# Altium schematic symbol library parts.schlib: 36 symbols
Pins are listed as number, name and electrical type; pins without a type are passive.

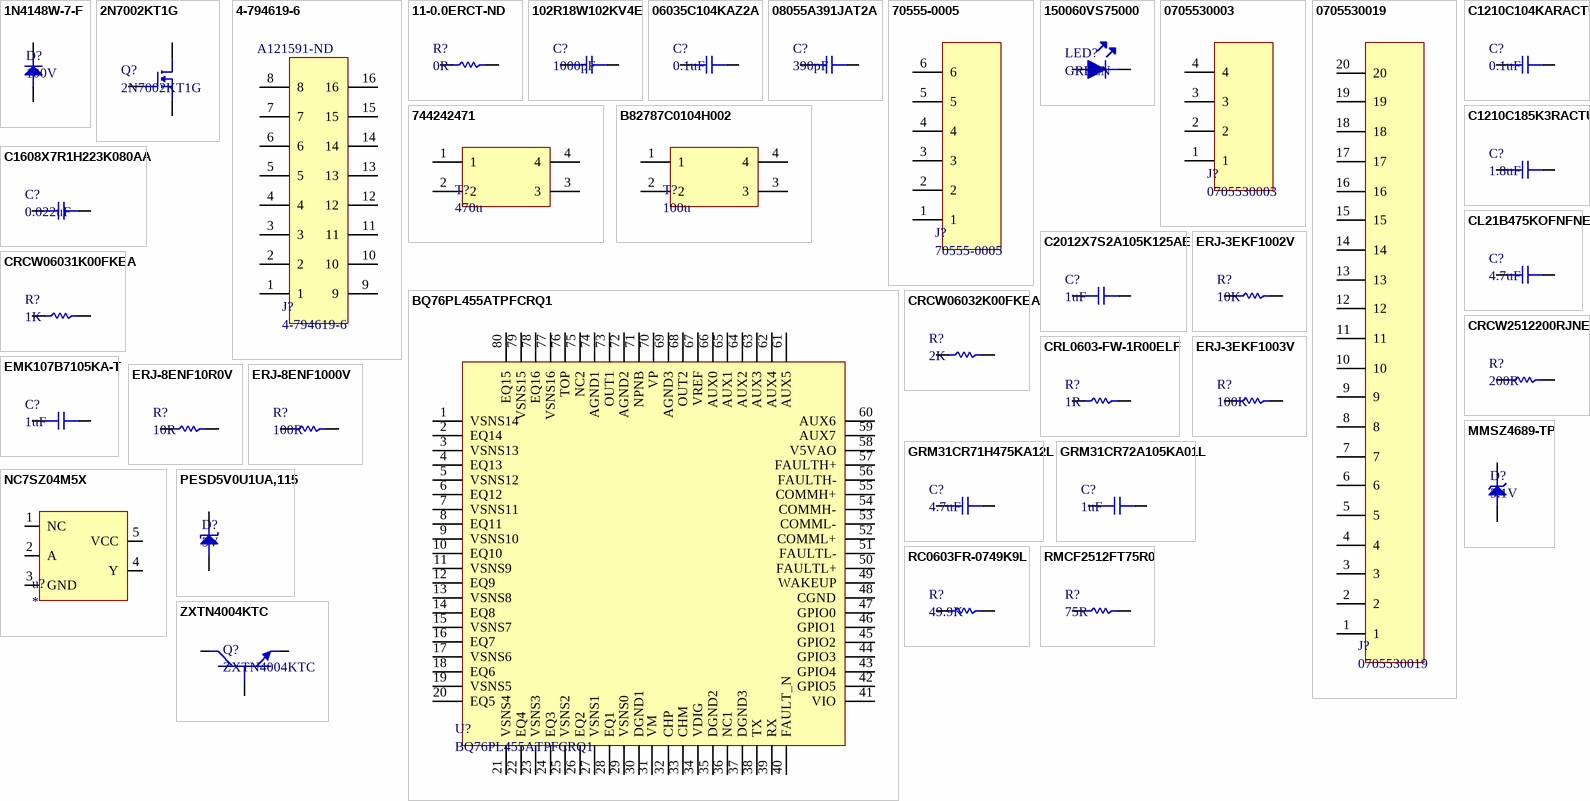
[diagram p0: symbols 1N4148W-7-F to ZXTN4004KTC]

## 1N4148W-7-F
designator D?, comment 100V
DIODE GEN PURP 100V 300MA SOD123; Manufacturer: Diodes; Manufacturer Part Number: 1N4148W-7-F; Max Surge Current: 2A; Forward Current: 150mA; Peak Reverse Current: 1uA; Recovery Time: 4ns; Forward Voltage: 1.25V; Power Dissipation: 400mW; Element Configuration: Single; Polarity: Standard; Voltage Rating (DC): 75V; Capacitance: 2pF; Current: 15A; Supplier 1: Digi-Key; Stock 1: 0; Pricing 1: 1=0.18, 10=0.164, 100=0.0891, 500=0.0548, 1000=0.0374 (USD); Mount: Surface Mount; Number of Pins: 2; Weight: 0.000353oz; Contact Plating: Matte,Tin; Min Operating Temperature: -65°C; Max Operating Temperature: 150°C; Package Quantity: 3000; Packaging: Tape and Reel; Average Rectified Current: 300mA; Reverse Recovery Time: 4ns; Max Repetitive Reverse Voltage (Vrrm): 100V; Peak Non-Repetitive Surge Current: 2A; Power Rating: 400mW; Max Reverse Voltage (DC): 100V; Max Forward Surge Current (Ifsm): 2A; Current Rating: 150mA; Output Current: 150mA; Voltage: 100V; Length: 2.85mm; Height: 1.25mm; Width: 1.7mm; Radiation Hardening: No; Lead Free: Lead Free; REACH SVHC: No SVHC; Supplier Part Number 1: 1N4148W-FDICT-ND
footprint DIODE BtoB (1N4148W-7-F)
pins: 1, 2

## 2N7002KT1G
designator Q?
MOSFET N-CH 60V 320MA SOT-23; Manufacturer: ON Semiconductor; Input Capacitance: 24.5pF; Max Power Dissipation: 420mW; Rds On Max: 1.6R; Nominal Vgs: 2.3V; Number of Elements: 1; Power Dissipation: 300mW; Turn-Off Delay Time: 55.8ns; Turn-On Delay Time: 12.2ns; Element Configuration: Single; Gate to Source Voltage (Vgs): 20V; Rise Time: 9ns; Supplier 1: Digi-Key; Manufacturer Part Number: 2N7002KT1G; Stock 1: 39226; Pricing 1: 1=0.21, 10=0.193, 100=0.1264, 500=0.0618, 1000=0.0421 (USD); Case/Package: SOT-23-3; Number of Pins: 3; Contact Plating: Matte,Tin; Min Operating Temperature: -55°C; Max Operating Temperature: 150°C; Packaging: Tape and Reel; Continuous Drain Current (ID): 320mA; Package Quantity: 1; Drain to Source Breakdown Voltage: 60V; Drain to Source Resistance: 1.6R; Threshold Voltage: 2.3V; On-State Resistance: 1.6R; Fall Time: 9ns; Length: 3.04mm; Height: 1.01mm; Width: 1.4mm; Radiation Hardening: No; REACH SVHC: No SVHC; Lead Free: Lead Free; Halogen Free: Halogen Free; ComponentLink1URL: http://www.mouser.com/ds/2/308/2N7002K-D-40616.pdf; ComponentLink1Description: http://www.mouser.com/ds/2/308/2N7002K-D-40616.pdf; ComponentLink2URL: http://www.farnell.com/datasheets/2354033.pdf; ComponentLink2Description: http://www.farnell.com/datasheets/2354033.pdf; ComponentLink3URL: http://www.onsemi.ru.com/pub/Collateral/2N7002K-D.PDF; ComponentLink3Description: http://www.onsemi.ru.com/pub/Collateral/2N7002K-D.PDF; ComponentLink4URL: https://www.verical.com/server-webapp/html/getDatasheet?partID=309924; ComponentLink4Description: https://www.verical.com/server-webapp/html/getDatasheet?partID=309924; ComponentLink5URL: http://www.onsemi.com/pub_link/Collateral/2N7002K-D.PDF; ComponentLink5Description: http://www.onsemi.com/pub_link/Collateral/2N7002K-D.PDF; ComponentLink6URL: http://uk.rs-online.com/webdocs/13e9/0900766b813e9f06.pdf; ComponentLink6Description: http://uk.rs-online.com/webdocs/13e9/0900766b813e9f06.pdf; ComponentLink7URL: http://www.onsemi.com/pub/Collateral/2N7002K-D.PDF; ComponentLink7Description: http://www.onsemi.com/pub/Collateral/2N7002K-D.PDF; Supplier Part Number 1: 2N7002KT1GOSCT-ND
footprint N-MOSFET (2V7002K)
pins: 1, 2, 3

## 4-794619-6
designator J?  Supplier Part Number 1: A121591-ND
CONN HEADER R/A 16POS 3MM; Manufacturer: TE Connectivity; Max Voltage Rating (AC): 250V; Current Rating: 5A; Number of Positions: 16; Number of Ports: 1; Connector Type: Pin; Circuit Application: Power; Connector System: Wire-to-Board; Contact Retention: No (Without); Mating Alignment: Yes (With); PCB Mount Retention: With; PCB Mounting Orientation: Right Angle; VDE Tested: Yes; Pitch: 0.118inch; Row Spacing: 0.118mm; PCB Thickness: 0.063inch; Approvals: CSA; Supplier 1: Digi-Key; Manufacturer Part Number: 4-794619-6; Stock 1: 1304; Pricing 1: 1=2.43, 10=2.209, 130=1.8933, 520=1.5778, 1040=1.3524, 5070=1.1991 (USD); Mount: Through Hole; Contact Material: Brass; Contact Plating: Gold,Tin; Color: Black; Number of Terminals: 16; Housing Material: Nylon; Housing Color: Black; Min Operating Temperature: -40°C; Max Operating Temperature: 221°C; Packaging: Tray; Package Quantity: 130; Number of Rows: 2; Fastening Type: Ramp; Voltage Rating: 250V; Termination: Solder; Number of Contacts: 16; Orientation: Right Angle; Mating Retention: Yes (With); Number of Power Positions: 16; Sealable: No (Without); Strain Relief: No (Without); Contact Current Rating: 5A; Length: 28mm; Depth: 11.92mm; Radiation Hardening: No; Flammability Rating: UL94 V-0; ELV: Compliant; ComponentLink1URL: http://www.te.com/commerce/DocumentDelivery/DDEController?Action=srchrtrv&DocNm=82181_SOFTSHELL_HIGH_DENSITY&DocType=Catalog+Section&DocLang=English&PartCntxt=&src-supplier=Avnet; ComponentLink1Description: http://www.te.com/commerce/DocumentDelivery/DDEController?Action=srchrtrv&DocNm=82181_SOFTSHELL_HIGH_DENSITY&DocType=Catalog+Section&DocLang=English&PartCntxt=&src-supplier=Avnet; ComponentLink2URL: http://www.te.com/commerce/DocumentDelivery/DDEController?Action=srchrtrv&DocNm=794619&DocType=Customer+Drawing&DocLang=English&src-supplier=Digi-Key; ComponentLink2Description: http://www.te.com/commerce/DocumentDelivery/DDEController?Action=srchrtrv&DocNm=794619&DocType=Customer+Drawing&DocLang=English&src-supplier=Digi-Key; ComponentLink3URL: http://www.onlinecomponents.com/productFiles/mf-AMP/eng_cs_82181_softshell_high_density_0508.pdf?src-supplier=Onlinecomponents.com; ComponentLink3Description: http://www.onlinecomponents.com/productFiles/mf-AMP/eng_cs_82181_softshell_high_density_0508.pdf?src-supplier=Onlinecomponents.com
footprint THERMO HDR
pins: 1, 2, 3, 4, 5, 6, 7, 8, 9, 10, 11, 12, 13, 14, 15, 16

## 11-0.0ERCT-ND
designator R?, comment 0R
RES SMD 0 OHM JUMPER 1/4W 1206; Manufacturer: Yageo; Manufacturer Part Number: RC1206JR-070RL; Power Rating: 250mW; Tolerance: 5%; Voltage Rating: 200V; Resistance: 0mR; Temperature Coefficient: 200ppm/°C; Supplier 1: Digi-Key; Stock 1: 13658695; Pricing 1: 1=0.1, 10=0.067, 25=0.0484, 50=0.0368, 100=0.0271, 250=0.0207, 500=0.0166, 1000=0.0122 (USD); Case/Package: 1206; Case Code (Metric): 3216; Case Code (Imperial): 1206; Contact Plating: Tin,Matte; Min Operating Temperature: -55°C; Max Operating Temperature: 155°C; Composition: Thick Film,Carbon Film; Packaging: Tape and Reel; Package Quantity: 5000; Number of Terminations: 2; Termination: SMD/SMT; Military Standard: Not; Max Power Dissipation: 250mW; Length: 3.1mm; Height: 0.026inch; Width: 0.063inch; Depth: 1.6mm; Radiation Hardening: No; REACH SVHC: Unknown; Lead Free: Lead Free; ComponentLink1URL: http://www.farnell.com/datasheets/1692832.pdf?src-supplier=Element14; ComponentLink1Description: http://www.farnell.com/datasheets/1692832.pdf?src-supplier=Element14; ComponentLink2URL: http://www.farnell.com/datasheets/444357.pdf?src-supplier=Element14; ComponentLink2Description: http://www.farnell.com/datasheets/444357.pdf?src-supplier=Element14; ComponentLink3URL: http://www.yageo.com/documents/recent/PYu-RC1206_51_RoHS_L-4.pdf?src-supplier=Future+Electronics; ComponentLink3Description: http://www.yageo.com/documents/recent/PYu-RC1206_51_RoHS_L-4.pdf?src-supplier=Future+Electronics; ComponentLink4URL: http://www.yageo.com/documents/recent/PYu-RC_Group_51_RoHS_L_10.pdf?src-supplier=Digi-Key; ComponentLink4Description: http://www.yageo.com/documents/recent/PYu-RC_Group_51_RoHS_L_10.pdf?src-supplier=Digi-Key; ComponentLink5URL: http://documents.rs-components.com/techlib://itc_doclist_GB.htm?stockno=6182243&src-supplier=RSComponents; ComponentLink5Description: http://documents.rs-components.com/techlib://itc_doclist_GB.htm?stockno=6182243&src-supplier=RSComponents; ComponentLink6URL: http://www.produktinfo.conrad.com/datenblaetter/400000-424999/402222-da-01-en-SMD_WIDERSTAND_0_OHM_1206.pdf?src-supplier=Conrad; ComponentLink6Description: http://www.produktinfo.conrad.com/datenblaetter/400000-424999/402222-da-01-en-SMD_WIDERSTAND_0_OHM_1206.pdf?src-supplier=Conrad; Supplier Part Number 1: 311-0.0ERCT-ND
footprint 1206 RES (Chip Resistor, 2-Leads, Body 3.15x1.60mm, IPC Medium Density)
pins: 1, 2

## 102R18W102KV4E
designator C?, comment 1000pF
CAP CER 1000PF 1KV X7R 1206; Manufacturer: Johanson; Manufacturer Part Number: 102R18W102KV4E; Dielectric Material: Ceramic; Capacitance: 1nF; Tolerance: 10%; Supplier 1: Digi-Key; Stock 1: 30000; Pricing 1: 1=0.38, 10=0.266, 100=0.1594, 500=0.1195, 1000=0.101 (USD); Mount: Surface Mount; Case/Package: 1206; Number of Pins: 2; Case Code (Imperial): 1206; Case Code (Metric): 3216; Min Operating Temperature: -55°C; Max Operating Temperature: 125°C; Packaging: Tape and Reel; Voltage Rating: 1kV; Voltage Rating (DC): 1kV; Package Quantity: 3000; Dielectric: X7R; Termination: SMD/SMT; Voltage: 1kV; Length: 3.17mm; Height: 1.27mm; Width: 1.6mm; Thickness: 0.067inch; Depth: 1.57mm; Radiation Hardening: No; REACH SVHC: No SVHC; ComponentLink1URL: http://www.farnell.com/datasheets/1909358.pdf; ComponentLink1Description: http://www.farnell.com/datasheets/1909358.pdf; ComponentLink2URL: http://www.farnell.com/datasheets/1898761.pdf; ComponentLink2Description: http://www.farnell.com/datasheets/1898761.pdf; Supplier Part Number 1: 709-1029-1-ND
footprint 1206 CAP (Chip Capacitor, 2-Leads, Body 3.20x1.60mm, IPC Medium Density)
pins: 1, 2

## 06035C104KAZ2A
designator C?, comment 0.1uF
CAP CER 0.1UF 50V X7R 0603; Manufacturer: Kyocera AVX; Manufacturer Part Number: 06035C104KAZ2A; Capacitance: 100nF; Tolerance: 10%; Temperature Coefficient: 30ppm/°C; Supplier 1: Digi-Key; Stock 1: 40000; Pricing 1: 1=0.23, 10=0.161, 100=0.0756, 500=0.053, 1000=0.0439 (USD); Mount: PCB,Surface Mount; Case/Package: 0603; Number of Pins: 2; Case Code (Metric): 1608; Case Code (Imperial): 0603; Contact Plating: Matte,Tin; Min Operating Temperature: -55°C; Max Operating Temperature: 125°C; Package Quantity: 1; Voltage Rating: 50V; Packaging: Tape and Reel; Voltage Rating (DC): 50V; Dielectric: X7R; Termination: SMD/SMT; Voltage: 50V; Features: Soft Termination; Length: 1.6mm; Height: 0.94mm; Width: 0.032inch; Thickness: 0.035inch; Depth: 0.81mm; Radiation Hardening: No; REACH SVHC: No SVHC; Lead Free: Lead Free; Supplier Part Number 1: 478-3540-1-ND
footprint 0603 CAP - duplicate (Chip Capacitor, 2-Leads, Body 1.60x0.80mm, IPC Medium Density)
pins: 1, 2

## 08055A391JAT2A
designator C?, comment 390pF
CAP CER 390PF 50V C0G/NP0 0805; Manufacturer: Kyocera AVX; Manufacturer Part Number: 08055A391JAT2A; Dielectric Material: Ceramic; Tolerance: 5%; Dielectric: C0G; Temperature Coefficient: 30ppm/°C; Supplier 1: Digi-Key; Stock 1: 18; Pricing 1: 1=0.22, 10=0.16, 100=0.075, 500=0.0526, 1000=0.0436 (USD); Mount: PCB,Surface Mount; Case/Package: 0805; Number of Pins: 2; Case Code (Imperial): 0805; Case Code (Metric): 2012; Contact Plating: Matte,Tin; Min Operating Temperature: -55°C; Max Operating Temperature: 125°C; Packaging: Tape and Reel; Capacitance: 390pF; Package Quantity: 1; Voltage Rating: 50V; Voltage Rating (DC): 50V; Termination: SMD/SMT; Voltage: 50V; Length: 2.01mm; Height: 0.94mm; Width: 1.25mm; Thickness: 0.037inch; Depth: 1.25mm; Radiation Hardening: No; REACH SVHC: No SVHC; Lead Free: Lead Free; Supplier Part Number 1: 478-1323-1-ND
footprint 0805 CAP (Chip Capacitor, 2-Leads, Body 2.00x1.25mm, IPC Medium Density)
pins: 1, 2

## 70555-0005
designator J?
CONN HEADER 6POS .100 R/A TIN; Manufacturer: Molex; Contact Resistance: 30mR; Number of Contacts: 6; Current Rating: 3A; Voltage Rating: 250V; Gender: Female; Insulation Resistance: 1GR; Connector Type: Male Pin; Pitch: 2.54mm; Glow Wire Compliant: Non-compliant; Supplier 1: Digi-Key; Manufacturer Part Number: 70555-0005; Stock 1: 1593; Pricing 1: 1=1.19, 10=1.046, 100=0.902, 500=0.738, 1000=0.656, 5000=0.574, 10000=0.5453 (USD); Mount: Through Hole; Contact Plating: Tin; Contact Material: Brass,Bronze; Housing Color: Black; Housing Material: Polyester; Color: Black; Material: Brass; Min Operating Temperature: -40°C; Max Operating Temperature: 105°C; Number of Rows: 1; Packaging: Rail/Tube; Termination: Solder; Orientation: Right Angle; Package Quantity: 1; Contact Gender: Male; Number of Positions: 6; Voltage Rating (DC): 250V; Number of Circuits: 6; Length: 18.69mm; Depth: 13.59mm; Contact Mating Length: 0.24inch; ELV: Compliant; Flammability Rating: UL94 V-0; ComponentLink1URL: https://www.molex.com/pdm_docs/ps/PS-70400.pdf; ComponentLink1Description: https://www.molex.com/pdm_docs/ps/PS-70400.pdf; ComponentLink2URL: http://www.mouser.com/ds/2/276/0705550005_PCB_HEADERS-172795.pdf; ComponentLink2Description: http://www.mouser.com/ds/2/276/0705550005_PCB_HEADERS-172795.pdf; Supplier Part Number 1: WM4168-ND
footprint SERIAL HDR
pins: 1, 2, 3, 4, 5, 6

## 150060VS75000
designator LED?, comment GREEN
LED GREEN CLEAR 0603 SMD; Manufacturer: Wurth Electronics; Manufacturer Part Number: 150060VS75000; Luminous Intensity: 40mcd; Viewing Angle: 140°; Forward Voltage: 2V; Wavelength: 570nm; Lens Style: Clear,Rectangular; Forward Current: 30mA; Test Current: 20mA; Supplier 1: Digi-Key; Stock 1: 219425; Pricing 1: 1=0.14, 50=0.129, 100=0.11, 500=0.095 (USD); Mount: Surface Mount; Case/Package: 0603; Number of Pins: 2; Colour: Green; Case Code (Metric): 1608; Case Code (Imperial): 0603; Min Operating Temperature: -40°C; Max Operating Temperature: 85°C; Package Quantity: 1; Packaging: Tape and Reel; Dominant Wavelength: 570nm; Length: 1.6mm; Height: 0.7mm; Width: 0.8mm; REACH SVHC: Unknown; ComponentLink1URL: http://www.farnell.com/datasheets/1911347.pdf; ComponentLink1Description: http://www.farnell.com/datasheets/1911347.pdf; ComponentLink2URL: https://katalog.we-online.de/led/datasheet/150060VS75000.pdf; ComponentLink2Description: https://katalog.we-online.de/led/datasheet/150060VS75000.pdf; ComponentLink3URL: https://www.distrelec.biz/Web/Downloads/_t/ds/150060VS75000_eng_tds.pdf?mime=application%2Fpdf; ComponentLink3Description: https://www.distrelec.biz/Web/Downloads/_t/ds/150060VS75000_eng_tds.pdf?mime=application%2Fpdf; ComponentLink4URL: http://www.produktinfo.conrad.com/datenblaetter/750000-774999/759431-da-01-en-CHIPLED_0603_W_KL_H_GRUEN_150060VS7500.pdf; ComponentLink4Description: http://www.produktinfo.conrad.com/datenblaetter/750000-774999/759431-da-01-en-CHIPLED_0603_W_KL_H_GRUEN_150060VS7500.pdf; Supplier Part Number 1: 732-4980-1-ND
footprint LED2 (Chip Capacitor, 2-Leads, Body 1.60x0.70mm, IPC Medium Density)
pins: 1, 2

## 0705530003
designator J?
CONN HEADER 4POS .100 R/A GOLD; Manufacturer: Molex; Manufacturer Part Number: 70553-0003; Contact Resistance: 30mR; Number of Positions: 4; Current Rating: 3A; Voltage Rating: 250V; Gender: Male; Insulation Resistance: 1GR; Pitch: 2.54mm; Approvals: CSA,UL; Glow Wire Compliant: Non-compliant; Supplier 1: Digi-Key; Stock 1: 15444; Pricing 1: 1=1.16, 10=1.019, 100=0.8796, 500=0.7196, 1680=0.5997, 5040=0.5597, 10080=0.5317 (USD); Mount: Through Hole; Contact Material: Bronze,Copper Alloy; Contact Plating: Gold; Color: Black; Housing Color: Black; Housing Material: Polycyclohexylenedimethylene; Material: Brass; Min Operating Temperature: -40°C; Max Operating Temperature: 105°C; Number of Rows: 1; Packaging: Rail/Tube; Termination: Through Hole; Orientation: Right Angle; Package Quantity: 1680; Number of Contacts: 4; Number of Circuits: 4; Voltage Rating (DC): 250V; REACH SVHC: Unknown; ELV: Compliant; Lead Free: Lead Free; Flammability Rating: UL94 V-0; ComponentLink1URL: http://www.molex.com/webdocs/datasheets/pdf/en-us/0705530003_PCB_HEADERS.pdf; ComponentLink1Description: http://www.molex.com/webdocs/datasheets/pdf/en-us/0705530003_PCB_HEADERS.pdf; ComponentLink2URL: http://www.jameco.com/Jameco/Products/ProdDS/884758.pdf; ComponentLink2Description: http://www.jameco.com/Jameco/Products/ProdDS/884758.pdf; ComponentLink3URL: http://uk.rs-online.com/webdocs/13c4/0900766b813c4977.pdf; ComponentLink3Description: http://uk.rs-online.com/webdocs/13c4/0900766b813c4977.pdf; Supplier Part Number 1: WM4902-ND
footprint COMM HDR
pins: 1, 2, 3, 4

## 0705530019
designator J?
CONN HEADER R/A 20POS 2.54MM; Manufacturer: Molex; Contact Resistance: 30mR; Number of Positions: 20; Gender: Male; Connector Type: Male Pin; Supplier 1: Digi-Key; Manufacturer Part Number: 0705530019; Stock 1: 1219; Pricing 1: 1=6.08, 10=5.831, 400=4.3098, 800=3.8027, 1200=3.5492 (USD); Mount: Through Hole; Contact Plating: Gold; Contact Material: Bronze; Color: Black; Housing Color: Black; Housing Material: Polyester; Min Operating Temperature: -40°C; Max Operating Temperature: 105°C; Packaging: Rail/Tube; Number of Rows: 1; Package Quantity: 1; Termination: Solder; Number of Contacts: 20; Orientation: Right Angle; Length: 53.35mm; Pitch: 2.54mm; Contact Mating Length: 0.24inch; Depth: 13.59mm; ComponentLink1URL: http://www.molex.com/webdocs/datasheets/pdf/en-us/0705530019_PCB_HEADERS.pdf; ComponentLink1Description: http://www.molex.com/webdocs/datasheets/pdf/en-us/0705530019_PCB_HEADERS.pdf; ComponentLink2URL: http://www.molex.com/pdm_docs/sd/705530019_sd.pdf; ComponentLink2Description: http://www.molex.com/pdm_docs/sd/705530019_sd.pdf; Supplier Part Number 1: WM4918-ND
footprint PCBComponent_1
pins: 1, 2, 3, 4, 5, 6, 7, 8, 9, 10, 11, 12, 13, 14, 15, 16, 17, 18, 19, 20

## 744242471
designator T?, comment 470u
CMC 470UH 400MA 2LN 2.2 KOHM SMD; Manufacturer: Wurth Electronics; Manufacturer Part Number: 744242471; Tolerance: 50%; Number of Lines: 2; Impedance: 2.2kR; Voltage Rating: 80V; Resistance: 350mR; Test Frequency: 100kHz; Supplier 1: Digi-Key; Stock 1: 3049; Pricing 1: 1=3.37, 10=3.125, 50=2.822, 100=2.722, 250=2.52 (USD); Mount: Surface Mount; Case/Package: SMD/SMT; Weight: 0.003351oz; Min Operating Temperature: -40°C; Max Operating Temperature: 125°C; Package Quantity: 1; Packaging: Tape and Reel; Current Rating: 400mA; Inductance: 470uh; Current: 400mA; DC Resistance (DCR): 350mR; Max DC Current: 400mA; Termination: SMD/SMT; Length: 0.236inch; Height: 0.138inch; Width: 3.3mm; REACH SVHC: No SVHC; Supplier Part Number 1: 732-1686-1-ND
footprint CHOKE NODE 470u (732-1686-1-ND)
pins: 1, 2, 3, 4

## B82787C0104H002
designator T?, comment 100u
CMC 100UH 150MA 2LN SMD AEC-Q200; Manufacturer: TDK EPCOS; Manufacturer Part Number: B82787C0104H002; Core Material: Ferrite; DC Resistance (DCR): 2R; Tolerance: 50%; Test Frequency: 100kHz; Self Resonant Frequency: 10MHz; Supplier 1: Digi-Key; Stock 1: 65671; Pricing 1: 1=1.62, 10=1.506, 100=1.0891, 500=0.8342, 1000=0.7415 (USD); Case/Package: SMD/SMT; Min Operating Temperature: -40°C; Max Operating Temperature: 150°C; Inductance: 100uh; Packaging: Tape and Reel; DC Current: 150mA; Max DC Current: 150mA; Length: 4.7mm; Height: 2.8mm; Depth: 3.4mm; Lead Free: Lead Free; Supplier Part Number 1: 495-4598-1-ND
footprint CHOKE NODE 100u (445-3959-1-ND)
pins: 1, 2, 3, 4

## BQ76PL455ATPFCRQ1
designator U?
IC BATT MONITOR/PROTECT 80TQFP; Manufacturer: Texas Instruments; Interface: UART; Fault Protection: Over/Under Voltage; Operating Supply Voltage: 22V; Supplier 1: Digi-Key; Manufacturer Part Number: BQ76PL455ATPFCRQ1; Stock 1: 0; Pricing 1: 1=19.03, 10=17.486, 100=14.7676, 500=13.1368 (USD); Mount: Surface Mount; Case/Package: TQFP; Number of Pins: 80; Min Operating Temperature: -40°C; Max Operating Temperature: 105°C; Packaging: Tape and Reel; Lead Free: Lead Free; Supplier Part Number 1: 296-44049-1-ND
footprint BQ76PL455A-Q1 (MAIN CHIP)
pins: 1 VSNS14, 2 EQ14, 3 VSNS13, 4 EQ13, 5 VSNS12, 6 EQ12, 7 VSNS11, 8 EQ11, 9 VSNS10, 10 EQ10, 11 VSNS9, 12 EQ9, 13 VSNS8, 14 EQ8, 15 VSNS7, 16 EQ7, 17 VSNS6, 18 EQ6, 19 VSNS5, 20 EQ5, 21 VSNS4, 22 EQ4, 23 VSNS3, 24 EQ3, 25 VSNS2, 26 EQ2, 27 VSNS1, 28 EQ1, 29 VSNS0, 30 DGND1, 31 VM, 32 CHP, 33 CHM, 34 VDIG, 35 DGND2, 36 NC1, 37 DGND3, 38 TX, 39 RX, 40 FAULT_N, 41 VIO, 42 GPIO5, 43 GPIO4, 44 GPIO3, 45 GPIO2, 46 GPIO1, 47 GPIO0, 48 CGND, 49 WAKEUP, 50 FAULTL+, 51 FAULTL-, 52 COMML+, 53 COMML-, 54 COMMH-, 55 COMMH+, 56 FAULTH-, 57 FAULTH+, 58 V5VAO, 59 AUX7, 60 AUX6, 61 AUX5, 62 AUX4, 63 AUX3, 64 AUX2, 65 AUX1, 66 AUX0, 67 VREF, 68 OUT2, 69 AGND3, 70 VP, 71 NPNB, 72 AGND2, 73 OUT1, 74 AGND1, 75 NC2, 76 TOP, 77 VSNS16, 78 EQ16, 79 VSNS15, 80 EQ15

## C1210C104KARACTU
designator C?, comment 0.1uF
CAP CER 0.1UF 250V X7R 1210; Manufacturer: KEMET; Manufacturer Part Number: C1210C104KARACTU; Dielectric Material: Ceramic; Capacitance: 100nF; Tolerance: 10%; Dissipation Factor: 2.5%; Supplier 1: Digi-Key; Stock 1: 3355; Pricing 1: 1=0.68, 10=0.479, 100=0.3156, 500=0.2338, 1000=0.1987 (USD); Mount: PCB,Surface Mount; Case/Package: 1210; Number of Pins: 2; Case Code (Imperial): 1210; Case Code (Metric): 3225; Min Operating Temperature: -55°C; Max Operating Temperature: 125°C; Voltage Rating (DC): 250V; Voltage Rating: 250V; Packaging: Tape and Reel; Package Quantity: 1; Dielectric: X7R; Termination: SMD/SMT; Voltage: 250V; Length: 3.2mm; Height: 1.5mm; Width: 2.5mm; Thickness: 0.055inch; Depth: 2.5mm; REACH SVHC: No SVHC; Supplier Part Number 1: 399-4676-1-ND
footprint 1210 cap (Chip Capacitor, 2-Leads, Body 3.20x2.50mm, IPC Medium Density)
pins: 1, 2

## C1210C185K3RACTU
designator C?, comment 1.8uF
CAP CER 1.8UF 25V X7R 1210; Manufacturer: KEMET; Manufacturer Part Number: C1210C185K3RACTU; Dielectric Material: Ceramic; Tolerance: 10%; Dissipation Factor: 3.5%; Supplier 1: Digi-Key; Stock 1: 3636; Pricing 1: 1=1.15, 10=0.876, 100=0.6267, 500=0.4852, 1000=0.4178 (USD); Mount: PCB,Surface Mount; Case/Package: 1210; Case Code (Metric): 3225; Case Code (Imperial): 1210; Min Operating Temperature: -55°C; Max Operating Temperature: 125°C; Package Quantity: 1; Capacitance: 1.8uF; Voltage Rating: 25V; Packaging: Tape and Reel; Voltage Rating (DC): 25V; Dielectric: X7R; Termination: SMD/SMT; Voltage: 25V; Length: 3.2mm; Height: 1.55mm; Width: 0.098inch; Thickness: 0.067inch; Depth: 2.5mm; REACH SVHC: No SVHC; Supplier Part Number 1: 399-3082-1-ND
footprint 1210 cap (Chip Capacitor, 2-Leads, Body 3.20x2.50mm, IPC Medium Density)
pins: 1, 2

## C1608X7R1H223K080AA
designator C?, comment 0.022uF
CAP CER 0.022UF 50V X7R 0603; Manufacturer: TDK; Manufacturer Part Number: C1608X7R1H223K080AA; Dielectric Material: Ceramic; Capacitance: 22nF; Tolerance: 10%; Supplier 1: Digi-Key; Stock 1: 3; Pricing 1: 1=0.1, 10=0.074, 100=0.0331, 500=0.0237, 1000=0.0186 (USD); Mount: Surface Mount; Case/Package: 0603; Number of Pins: 2; Weight: 7.1E-05oz; Case Code (Metric): 1608; Case Code (Imperial): 0603; Min Operating Temperature: -55°C; Max Operating Temperature: 125°C; Package Quantity: 1; Voltage Rating: 50V; Packaging: Tape and Reel; Voltage Rating (DC): 50V; Dielectric: X7R; Termination: SMD/SMT; Composition: Ceramic; Voltage: 50V; Length: 1.6mm; Height: 0.8mm; Width: 0.031inch; Thickness: 0.037inch; Depth: 0.8mm; Radiation Hardening: No; REACH SVHC: No SVHC; Lead Free: Lead Free; Supplier Part Number 1: 445-1312-1-ND
footprint 0603 CAP - duplicate (Chip Capacitor, 2-Leads, Body 1.60x0.80mm, IPC Medium Density)
pins: 1, 2

## C2012X7S2A105K125AE
designator C?, comment 1uF
CAP CER 1UF 100V X7S 0805; Manufacturer: TDK; Manufacturer Part Number: C2012X7S2A105K125AE; Tolerance: 10%; Supplier 1: Digi-Key; Stock 1: 20000; Pricing 1: 1=0.5, 10=0.356, 100=0.2347, 500=0.1739, 1000=0.1478 (USD); Mount: Surface Mount; Case/Package: 0805; Case Code (Metric): 2012; Case Code (Imperial): 0805; Min Operating Temperature: -55°C; Max Operating Temperature: 125°C; Capacitance: 1uF; Voltage Rating: 100V; Packaging: Tape and Reel; Termination: SMD/SMT; Package Quantity: 1; Voltage Rating (DC): 100V; Dielectric: X7S; Composition: Ceramic; Features: Soft Termination; Length: 2mm; Height: 1.25mm; Width: 0.05inch; Thickness: 0.049inch; Depth: 1.25mm; Lead Free: Lead Free; ComponentLink1URL: https://product.tdk.com/info/en/catalog/spec/mlccspec_commercial_soft_en.pdf; ComponentLink1Description: https://product.tdk.com/info/en/catalog/spec/mlccspec_commercial_soft_en.pdf; ComponentLink2URL: http://www.mouser.com/ds/2/400/lcc_commercial_soft_en-520032.pdf; ComponentLink2Description: http://www.mouser.com/ds/2/400/lcc_commercial_soft_en-520032.pdf; Supplier Part Number 1: 445-8887-1-ND
footprint 0805 CAP (Chip Capacitor, 2-Leads, Body 2.00x1.25mm, IPC Medium Density)
pins: 1, 2

## CL21B475KOFNFNE
designator C?, comment 4.7uF
CAP CER 4.7UF 16V X7R 0805; Manufacturer: Samsung; Manufacturer Part Number: CL21B475KOFNFNE; Tolerance: 10%; Supplier 1: Digi-Key; Stock 1: 20000; Pricing 1: 1=0.3, 10=0.208, 100=0.1181, 500=0.0833, 1000=0.0729 (USD); Mount: Surface Mount; Case/Package: 0805; Case Code (Metric): 2012; Case Code (Imperial): 0805; Min Operating Temperature: -55°C; Max Operating Temperature: 125°C; Package Quantity: 1; Packaging: Tape and Reel; Capacitance: 4.7uF; Voltage Rating: 16V; Dielectric: X7R; Length: 0.079inch; Height: 1.25mm; Width: 0.049inch; Thickness: 0.053inch; Depth: 1.25mm; Radiation Hardening: No; Supplier Part Number 1: 1276-2970-1-ND
footprint 0805 CAP (Chip Capacitor, 2-Leads, Body 2.00x1.25mm, IPC Medium Density)
pins: 1, 2

## CRCW06031K00FKEA
designator R?, comment 1K
RES SMD 1K OHM 1% 1/10W 0603; Manufacturer: Vishay Dale; Manufacturer Part Number: CRCW06031K00FKEA; Resistance: 1kR; Power Rating: 100mW; Voltage Rating: 75V; Temperature Coefficient: 100ppm/°C; Supplier 1: Digi-Key; Stock 1: 3823619; Pricing 1: 1=0.1, 10=0.042, 100=0.017, 1000=0.0076, 2500=0.0066 (USD); Mount: Surface Mount; Case/Package: 0603; Number of Pins: 2; Weight: 7.1E-05oz; Case Code (Metric): 1608; Case Code (Imperial): 0603; Contact Plating: Tin; Min Operating Temperature: -55°C; Max Operating Temperature: 155°C; Composition: Thick Film; Tolerance: 1%; Packaging: Tape and Reel; Package Quantity: 10; Number of Terminations: 2; Termination: SMD/SMT; Military Standard: Not; Max Power Dissipation: 100mW; Voltage Rating (DC): 75V; Features: Automotive AEC-Q200; Length: 1.55mm; Height: 0.45mm; Width: 0.033inch; Depth: 0.85mm; Radiation Hardening: No; REACH SVHC: Unknown; Lead Free: Lead Free; Supplier Part Number 1: 541-1.00KHCT-ND
footprint 0603 RES (Chip Resistor, 2-Leads, Body 1.57x0.85mm, IPC Medium Density)
pins: 1, 2

## CRCW06032K00FKEA
designator R?, comment 2K
RES SMD 2K OHM 1% 1/10W 0603; Manufacturer: Vishay; Manufacturer Part Number: CRCW06032K00FKEA; Power Rating: 100mW; Resistance: 2kR; Voltage Rating: 75V; Temperature Coefficient: 100ppm/°C; Supplier 1: Digi-Key; Stock 1: 388348; Pricing 1: 1=0.1, 10=0.042, 100=0.017, 1000=0.0076, 2500=0.0066 (USD); Mount: Surface Mount; Case/Package: 0603; Number of Pins: 2; Weight: 7.1E-05oz; Case Code (Imperial): 0603; Case Code (Metric): 1608; Contact Plating: Lead,Tin; Min Operating Temperature: -55°C; Max Operating Temperature: 155°C; Tolerance: 1%; Packaging: Tape and Reel; Composition: Thick Film; Package Quantity: 10; Military Standard: Not; Termination: Solder; Voltage Rating (DC): 75V; Number of Terminations: 2; Max Power Dissipation: 100mW; Features: Automotive AEC-Q200; Length: 1.55mm; Height: 0.45mm; Width: 0.85mm; Depth: 0.85mm; Radiation Hardening: No; REACH SVHC: Unknown; Lead Free: Lead Free; Supplier Part Number 1: 541-2.00KHCT-ND
footprint 0603 RES (Chip Resistor, 2-Leads, Body 1.57x0.85mm, IPC Medium Density)
pins: 1, 2

## CRCW2512200RJNEG
designator R?, comment 200R
RES SMD 200 OHM 5% 1W 2512; Manufacturer: Vishay Dale; Manufacturer Part Number: CRCW2512200RJNEG; Voltage Rating: 500V; Temperature Coefficient: 200ppm/°C; Supplier 1: Digi-Key; Stock 1: 0; Pricing 1: 1=0.39, 10=0.333, 100=0.1301, 1000=0.0545 (USD); Mount: Surface Mount; Case/Package: 2512; Number of Pins: 2; Weight: 0.001429oz; Case Code (Metric): 6432; Case Code (Imperial): 2512; Contact Plating: Tin; Min Operating Temperature: -55°C; Max Operating Temperature: 155°C; Resistance: 200R; Tolerance: 5%; Packaging: Tape and Reel; Power Rating: 1W; Package Quantity: 2000; Composition: Thick Film; Number of Terminations: 2; Termination: SMD/SMT; Military Standard: Not; Max Power Dissipation: 1W; Voltage Rating (DC): 500V; Working Voltage: 500V; Features: Automotive AEC-Q200; Length: 6.3mm; Height: 0.6mm; Width: 0.124inch; Depth: 3.15mm; Radiation Hardening: No; REACH SVHC: Unknown; Lead Free: Lead Free; Supplier Part Number 1: 541-200XCT-ND
footprint 2512 RES (Chip Resistor, 2-Leads, Body 6.30x3.15mm, IPC Medium Density)
pins: 1, 2

## CRL0603-FW-1R00ELF
designator R?, comment 1R
RES SMD 1 OHM 1% 1/10W 0603; Manufacturer: Bourns; Manufacturer Part Number: CRL0603-FW-1R00ELF; Power Rating: 100mW; Temperature Coefficient: 200ppm/°C; Supplier 1: Digi-Key; Stock 1: 1350; Pricing 1: 1=0.13, 10=0.116, 100=0.0448, 1000=0.0197, 2500=0.017 (USD); Mount: Surface Mount; Case/Package: 0603; Case Code (Metric): 1608; Case Code (Imperial): 0603; Contact Plating: Tin; Min Operating Temperature: -55°C; Max Operating Temperature: 125°C; Resistance: 1R; Packaging: Tape and Reel; Tolerance: 1%; Package Quantity: 5000; Composition: Thick Film; Number of Terminations: 2; Termination: SMD/SMT; Military Standard: Not; Max Power Dissipation: 100mW; Length: 1.6mm; Height: 0.45mm; Width: 0.8mm; Depth: 0.8mm; Radiation Hardening: No; REACH SVHC: No SVHC; Supplier Part Number 1: CRL0603-FW-1R00ELFCT-ND
footprint 0603 RES (Chip Resistor, 2-Leads, Body 1.57x0.85mm, IPC Medium Density)
pins: 1, 2

## EMK107B7105KA-T
designator C?, comment 1uF
CAP CER 1UF 16V X7R 0603; Manufacturer: Taiyo Yuden; Manufacturer Part Number: EMK107B7105KA-T; Tolerance: 10%; Supplier 1: Digi-Key; Stock 1: 4000; Pricing 1: 1=0.12, 10=0.089, 100=0.0398, 500=0.0284, 1000=0.0223 (USD); Mount: Surface Mount; Case/Package: 0603; Number of Pins: 2; Case Code (Metric): 1608; Case Code (Imperial): 0603; Contact Plating: Nickel; Min Operating Temperature: -55°C; Max Operating Temperature: 125°C; Capacitance: 1uF; Packaging: Tape and Reel; Dielectric: X7R; Package Quantity: 1; Voltage Rating: 16V; Voltage Rating (DC): 16V; Termination: SMD/SMT; Composition: Ceramic; Length: 1.6mm; Height: 0.8mm; Depth: 0.8mm; Width: 0.031inch; Thickness: 0.035inch; Radiation Hardening: No; Lead Free: Lead Free; REACH SVHC: No SVHC; Halogen Free: Halogen Free; ComponentLink1URL: http://ds.yuden.co.jp/TYCOMPAS/ut/detail.do?productNo=EMK107B7105KA-T&fileName=EMK107B7105KA-T_SS&mode=specSheetDownload; ComponentLink1Description: http://ds.yuden.co.jp/TYCOMPAS/ut/detail.do?productNo=EMK107B7105KA-T&fileName=EMK107B7105KA-T_SS&mode=specSheetDownload; ComponentLink2URL: http://www.farnell.com/datasheets/2091570.pdf; ComponentLink2Description: http://www.farnell.com/datasheets/2091570.pdf; ComponentLink3URL: http://www.onlinecomponents.com/productFiles/mf-TAI/966emk107b7105ka-t.pdf; ComponentLink3Description: http://www.onlinecomponents.com/productFiles/mf-TAI/966emk107b7105ka-t.pdf; ComponentLink4URL: https://www.verical.com/server-webapp/html/getDatasheet?partID=637486; ComponentLink4Description: https://www.verical.com/server-webapp/html/getDatasheet?partID=637486; ComponentLink5URL: http://www.farnell.com/datasheets/746258.pdf; ComponentLink5Description: http://www.farnell.com/datasheets/746258.pdf; Supplier Part Number 1: 587-1241-1-ND
footprint 0603 CAP - duplicate (Chip Capacitor, 2-Leads, Body 1.60x0.80mm, IPC Medium Density)
pins: 1, 2

## ERJ-3EKF1002V
designator R?, comment 10K
RES SMD 10K OHM 1% 1/10W 0603; Manufacturer: Panasonic; Manufacturer Part Number: ERJ-3EKF1002V; Resistance: 10kR; Power Rating: 100mW; Voltage Rating: 75V; Temperature Coefficient: 100ppm/°C; Supplier 1: Digi-Key; Stock 1: 19944837; Pricing 1: 1=0.1, 10=0.064, 100=0.0261, 1000=0.0117, 2500=0.0102 (USD); Mount: Surface Mount; Case/Package: 0603; Number of Pins: 2; Case Code (Metric): 1608; Case Code (Imperial): 0603; Contact Plating: Tin; Min Operating Temperature: -55°C; Max Operating Temperature: 155°C; Tolerance: 1%; Packaging: Tape and Reel; Composition: Thick Film; Military Standard: Not; Voltage Rating (DC): 75V; Package Quantity: 1; Number of Terminations: 2; Termination: SMD/SMT; Max Power Dissipation: 100mW; Features: Automotive AEC-Q200; Length: 1.6mm; Height: 0.45mm; Width: 0.031inch; Depth: 0.8mm; Radiation Hardening: No; REACH SVHC: No SVHC; Lead Free: Lead Free; Supplier Part Number 1: P10.0KHDKR-ND
footprint 0603 RES (Chip Resistor, 2-Leads, Body 1.57x0.85mm, IPC Medium Density)
pins: 1, 2

## ERJ-3EKF1003V
designator R?, comment 100K
RES SMD 100K OHM 1% 1/10W 0603; Manufacturer: Panasonic; Manufacturer Part Number: ERJ3EKF-1003V; Resistance: 100kR; Power Rating: 100mW; Voltage Rating: 75V; Temperature Coefficient: 100ppm/°C; Supplier 1: Digi-Key; Stock 1: 10349154; Pricing 1: 1=0.1, 10=0.064, 100=0.0261, 1000=0.0117, 2500=0.0102 (USD); Case/Package: 0603; Number of Pins: 2; Case Code (Metric): 1608; Case Code (Imperial): 0603; Contact Plating: Tin; Min Operating Temperature: -55°C; Max Operating Temperature: 155°C; Tolerance: 1%; Packaging: Tape and Reel; Composition: Thick Film; Military Standard: Not; Voltage Rating (DC): 75V; Length: 1.6mm; Depth: 0.8mm; Width: 800um; Radiation Hardening: No; REACH SVHC: No SVHC; Lead Free: Lead Free; Supplier Part Number 1: P100KHCT-ND; Supplier 2: Digi-Key; Stock 2: 4435882; Pricing 2: 1=0.1, 10=0.024, 100=0.0097, 1000=0.0044, 2500=0.0038 (USD); Mount: Surface Mount; Package Quantity: 1; Number of Terminations: 2; Termination: SMD/SMT; Max Power Dissipation: 100mW; Features: Moisture Resistant; Height: 0.022inch; ComponentLink1URL: https://www.verical.com/server-webapp/html/getDatasheet?partID=323805&src-supplier=Verical; ComponentLink1Description: https://www.verical.com/server-webapp/html/getDatasheet?partID=323805&src-supplier=Verical; ComponentLink2URL: http://www.yageo.com/documents/recent/PYu-RC_Group_51_RoHS_L_10.pdf?src-supplier=Digi-Key; ComponentLink2Description: http://www.yageo.com/documents/recent/PYu-RC_Group_51_RoHS_L_10.pdf?src-supplier=Digi-Key; ComponentLink3URL: http://www.yageo.com/documents/recent/PYu-RC_Group_51_RoHS_L_9.pdf?src-supplier=Digi-Key; ComponentLink3Description: http://www.yageo.com/documents/recent/PYu-RC_Group_51_RoHS_L_9.pdf?src-supplier=Digi-Key; Supplier Part Number 2: 311-49.9KHRCT-ND
footprint 0603 RES (Chip Resistor, 2-Leads, Body 1.57x0.85mm, IPC Medium Density)
pins: 1, 2

## ERJ-8ENF10R0V
designator R?, comment 10R
RES SMD 10 OHM 1% 1/4W 1206; Manufacturer: Panasonic; Manufacturer Part Number: ERJ-8ENF10R0V; Power Rating: 250mW; Voltage Rating: 200V; Temperature Coefficient: 100ppm/°C; Supplier 1: Digi-Key; Stock 1: 490013; Pricing 1: 1=0.11, 10=0.1, 100=0.0385, 1000=0.017, 2500=0.0146 (USD); Mount: Surface Mount; Case/Package: 1206; Number of Pins: 2; Case Code (Metric): 3216; Case Code (Imperial): 1206; Contact Plating: Tin; Min Operating Temperature: -55°C; Max Operating Temperature: 155°C; Resistance: 10R; Tolerance: 1%; Packaging: Tape and Reel; Package Quantity: 1; Composition: Thick Film; Number of Terminations: 2; Termination: SMD/SMT; Military Standard: Not; Max Power Dissipation: 250mW; Voltage Rating (DC): 200V; Features: Automotive AEC-Q200; Length: 3.2mm; Height: 0.028inch; Width: 0.063inch; Depth: 1.6mm; Radiation Hardening: No; REACH SVHC: No SVHC; Lead Free: Lead Free; Supplier Part Number 1: P10.0FCT-ND
footprint 1206 RES (Chip Resistor, 2-Leads, Body 3.15x1.60mm, IPC Medium Density)
pins: 1, 2

## ERJ-8ENF1000V
designator R?, comment 100R
RES SMD 100 OHM 1% 1/4W 1206; Manufacturer: Panasonic; Manufacturer Part Number: ERJ-8ENF1000V; Power Rating: 250mW; Voltage Rating: 200V; Temperature Coefficient: 100ppm/°C; Supplier 1: Digi-Key; Stock 1: 474856; Pricing 1: 1=0.11, 10=0.1, 100=0.0385, 1000=0.017, 2500=0.0146 (USD); Mount: Surface Mount; Case/Package: 1206; Number of Pins: 2; Case Code (Metric): 3216; Case Code (Imperial): 1206; Contact Plating: Tin; Min Operating Temperature: -55°C; Max Operating Temperature: 155°C; Resistance: 100R; Tolerance: 1%; Packaging: Tape and Reel; Package Quantity: 1; Composition: Thick Film; Number of Terminations: 2; Termination: SMD/SMT; Military Standard: Not; Max Power Dissipation: 250mW; Voltage Rating (DC): 200V; Features: Automotive AEC-Q200; Working Voltage: 200V; Length: 3.2mm; Height: 0.6mm; Width: 0.063inch; Depth: 1.6mm; Radiation Hardening: No; REACH SVHC: No SVHC; Lead Free: Lead Free; Supplier Part Number 1: P100FCT-ND
footprint 1206 RES (Chip Resistor, 2-Leads, Body 3.15x1.60mm, IPC Medium Density)
pins: 1, 2

## GRM31CR71H475KA12L
designator C?, comment 4.7uF
CAP CER 4.7UF 50V X7R 1206; Manufacturer: Murata; Manufacturer Part Number: GRM31CR71H475KA12L; Material: Ceramic; Tolerance: 10%; Supplier 1: Digi-Key; Stock 1: 0; Pricing 1: 1=0.98, 10=0.723, 100=0.4961, 500=0.3928, 1000=0.3307 (USD); Mount: Surface Mount; Case/Package: 1206; Case Code (Metric): 3216; Case Code (Imperial): 1206; Min Operating Temperature: -55°C; Max Operating Temperature: 125°C; Capacitance: 4.7uF; Voltage Rating: 50V; Packaging: Tape and Reel; Voltage Rating (DC): 50V; Package Quantity: 2000; Dielectric: X7R; Termination: SMD/SMT; Voltage: 50V; Length: 3.2mm; Height: 1.6mm; Width: 0.063inch; Thickness: 0.071inch; Depth: 1.6mm; Radiation Hardening: No; REACH SVHC: No SVHC; Lead Free: Lead Free; Supplier Part Number 1: 490-6521-1-ND
footprint 1206 CAP (Chip Capacitor, 2-Leads, Body 3.20x1.60mm, IPC Medium Density)
pins: 1, 2

## GRM31CR72A105KA01L
designator C?, comment 1uF
CAP CER 1UF 100V X7R 1206; Manufacturer: Murata; Manufacturer Part Number: GRM31CR72A105KA01L; Material: Ceramic; Tolerance: 10%; Dissipation Factor: 0.05%; Supplier 1: Digi-Key; Stock 1: 0; Pricing 1: 1=0.9, 10=0.66, 100=0.4526, 500=0.3583, 1000=0.3018 (USD); Mount: Surface Mount; Case/Package: 1206; Case Code (Metric): 3216; Case Code (Imperial): 1206; Min Operating Temperature: -55°C; Max Operating Temperature: 125°C; Capacitance: 1uF; Package Quantity: 1; Voltage Rating: 100V; Packaging: Tape and Reel; Voltage Rating (DC): 100V; Dielectric: X7R; Termination: SMD/SMT; Voltage: 100V; Length: 3.2mm; Height: 1.6mm; Width: 0.063inch; Thickness: 0.071inch; Depth: 1.6mm; Radiation Hardening: No; REACH SVHC: No SVHC; Lead Free: Lead Free; Supplier Part Number 1: 490-3909-1-ND
footprint 1206 CAP (Chip Capacitor, 2-Leads, Body 3.20x1.60mm, IPC Medium Density)
pins: 1, 2

## MMSZ4689-TP
designator D?, comment 5.1V
DIODE ZENER 5.1V 500MW SOD123; Manufacturer: MCC; Manufacturer Part Number: MMSZ4689-TP; Tolerance: 5%; Max Reverse Leakage Current: 10uA; Test Current: 50uA; Element Configuration: Single; Supplier 1: Digi-Key; Stock 1: 294852; Pricing 1: 1=0.22, 10=0.203, 25=0.146, 100=0.1136, 250=0.0714, 500=0.0608, 1000=0.0414 (USD); Mount: Surface Mount; Number of Pins: 2; Min Operating Temperature: -55°C; Max Operating Temperature: 150°C; Package Quantity: 3000; Packaging: Tape and Reel; Zener Voltage: 5.1V; Max Power Dissipation: 500mW; Voltage Tolerance: 5%; Power Dissipation: 500mW; Zener Current: 50uA; Lead Free: Lead Free; Supplier Part Number 1: MMSZ4689-TPMSCT-ND
footprint ZENER DIODE (DDZ6V2BDICT-ND)
pins: 1, 2

## NC7SZ04M5X
designator u?
IC INVERTER 1CH 1-INP SOT23-5; Manufacturer: ON Semiconductor / Fairchild; Manufacturer Part Number: NC7SZ04M5X; Max Supply Voltage: 5.5V; Min Supply Voltage: 1.65V; Logic Function: Buffer,Inverter; High Level Output Current: -32mA; Low Level Output Current: 32mA; Propagation Delay: 12ns; Number of Circuits: 1; Quiescent Current: 2uA; Supplier 1: Digi-Key; Stock 1: 204255; Pricing 1: 1=0.48, 10=0.358, 100=0.203, 500=0.1344, 1000=0.1031 (USD); Mount: Surface Mount; Case/Package: SOT-23; Number of Pins: 5; Weight: 0.03g; Contact Plating: Tin,Matte; Min Operating Temperature: -40°C; Max Operating Temperature: 85°C; Packaging: Tape and Reel; Package Quantity: 1; Number of Inputs: 1; Output Current: 32mA; Number of Elements: 1; Turn-On Delay Time: 12ns; Radiation Hardening: No; REACH SVHC: No SVHC; Lead Free: Lead Free; ComponentLink1URL: http://www.jameco.com/Jameco/Products/ProdDS/1015511.pdf?src-supplier=Jameco; ComponentLink1Description: http://www.jameco.com/Jameco/Products/ProdDS/1015511.pdf?src-supplier=Jameco; ComponentLink2URL: https://www.fairchildsemi.com/datasheets/NC/NC7SZ04.pdf?src-supplier=Digi-Key; ComponentLink2Description: https://www.fairchildsemi.com/datasheets/NC/NC7SZ04.pdf?src-supplier=Digi-Key; ComponentLink3URL: http://www.farnell.com/datasheets/1639856.pdf?src-supplier=Element14; ComponentLink3Description: http://www.farnell.com/datasheets/1639856.pdf?src-supplier=Element14; ComponentLink4URL: http://www.fairchildsemi.com/ds/NC/NC7SZ04.pdf?src-supplier=Avnet+Europe; ComponentLink4Description: http://www.fairchildsemi.com/ds/NC/NC7SZ04.pdf?src-supplier=Avnet+Europe; ComponentLink5URL: https://www.verical.com/server-webapp/html/getDatasheet?partID=120911&src-supplier=Verical; ComponentLink5Description: https://www.verical.com/server-webapp/html/getDatasheet?partID=120911&src-supplier=Verical; ComponentLink6URL: https://www.fairchildsemi.com/datasheets/NC/NC7SZ04.pdf?src-supplier=Avnet; ComponentLink6Description: https://www.fairchildsemi.com/datasheets/NC/NC7SZ04.pdf?src-supplier=Avnet; ComponentLink7URL: http://www.fairchildsemi.com/ds/NC/NC7SZ04.pdf?src-supplier=Future+Electronics; ComponentLink7Description: http://www.fairchildsemi.com/ds/NC/NC7SZ04.pdf?src-supplier=Future+Electronics; Supplier Part Number 1: NC7SZ04M5XCT-ND
footprint Inverter (IC INVERTER 1CH 1-INP SOT23-5)
pins: 1 NC, 2 A, 3 GND, 4 Y, 5 VCC

## PESD5V0U1UA,115
designator D?, comment 5V
TVS DIODE 5V SOD323; Manufacturer: NXP Semiconductors; Manufacturer Part Number: PESD5V0U1UA,115; Direction: Unidirectional; Capacitance: 2.6pF; Number of Channels: 1; Min Breakdown Voltage: 5.8V; Power Line Protection: No; Leakage Current: 100nA; Max Breakdown Voltage: 8.8V; Element Configuration: Single; Supplier 1: Digi-Key; Stock 1: 225761; Pricing 1: 1=0.49, 10=0.373, 100=0.2377, 500=0.1669, 1000=0.1315 (USD); Mount: Surface Mount; Number of Pins: 2; Min Operating Temperature: -55°C; Max Operating Temperature: 150°C; Packaging: Tape and Reel; Package Quantity: 1; Operating Supply Voltage: 5V; Number of Unidirectional Channels: 1; Reverse Standoff Voltage: 5V; Polarity: Unidirectional; Breakdown Voltage: 5.8V; Termination: SMD/SMT; Working Voltage: 5V; Composition: Zener; Length: 1.8mm; Depth: 1.35mm; Radiation Hardening: No; Lead Free: Lead Free; Supplier Part Number 1: 1727-4155-1-ND
footprint TVS DIODE (1727-4155-1-ND)
pins: 1, 2

## RC0603FR-0749K9L
designator R?, comment 49.9K
RES SMD 49.9K OHM 1% 1/10W 0603
footprint 0603 RES (Chip Resistor, 2-Leads, Body 1.57x0.85mm, IPC Medium Density)
pins: 1, 2

## RMCF2512FT75R0
designator R?, comment 75R
RES 75 OHM 1% 1W 2512; Manufacturer: Stackpole Electronics; Manufacturer Part Number: RMCF2512FT75R0; Temperature Coefficient: 100ppm/°C; Supplier 1: Digi-Key; Stock 1: 8250; Pricing 1: 1=0.39, 10=0.333, 100=0.1301, 1000=0.0545 (USD); Mount: Surface Mount; Case/Package: 2512; Contact Plating: Matte,Tin; Min Operating Temperature: -55°C; Max Operating Temperature: 155°C; Packaging: Tape and Reel; Resistance: 75R; Tolerance: 1%; Power Rating: 1W; Composition: Thick Film; Package Quantity: 4000; Number of Terminations: 2; Max Power Dissipation: 1W; Features: Automotive AEC-Q200; Length: 0.248inch; Height: 0.028inch; Width: 0.126inch; Radiation Hardening: No; Supplier Part Number 1: RMCF2512FT75R0CT-ND
footprint 2512 RES (Chip Resistor, 2-Leads, Body 6.30x3.15mm, IPC Medium Density)
pins: 1, 2

## ZXTN4004KTC
designator Q?
TRANS NPN 150V 1A TO252; Manufacturer: Diodes; Max Power Dissipation: 3.8W; Number of Elements: 1; hFE Min: 100; Emitter Base Voltage (VEBO): 7V; Element Configuration: Single; Supplier 1: Digi-Key; Manufacturer Part Number: ZXTN4004KTC; Stock 1: 27399; Pricing 1: 1=0.49, 10=0.42, 100=0.3134, 500=0.2463, 1000=0.1903 (USD); Mount: Surface Mount; Case/Package: TO-252; Number of Pins: 3; Weight: 0.063493oz; Min Operating Temperature: -55°C; Max Operating Temperature: 150°C; Packaging: Tape and Reel; Package Quantity: 2500; Polarity: NPN; Collector Emitter Voltage (VCEO): 150V; Collector Base Voltage (VCBO): 150V; Continuous Collector Current: 1A; Max Collector Current: 1A; Collector Emitter Breakdown Voltage: 150V; Max Breakdown Voltage: 150V; Power Dissipation: 3.8W; Length: 6.7mm; Height: 6.2mm; Width: 2.39mm; Radiation Hardening: No; Lead Free: Lead Free; REACH SVHC: No SVHC; Supplier Part Number 1: ZXTN4004KTCDICT-ND
footprint NPN TRANSISTOR (ZXTN4004KTCDICT-ND)
pins: 1, 2, 3